# Altium footprint library AltTab_PCB_Chip.PcbLib: 105 footprints (part 6 of 7)
Each footprint in its own frame and in the unit in brackets; x right, y up, seen from the top. Pads: shape width x height; smd on the part's side, far side on the other; paste and mask are expansions set on the pad; w line width, h text height; cw(c..) or ccw(c..) is an arc to the next point about the centre after c.
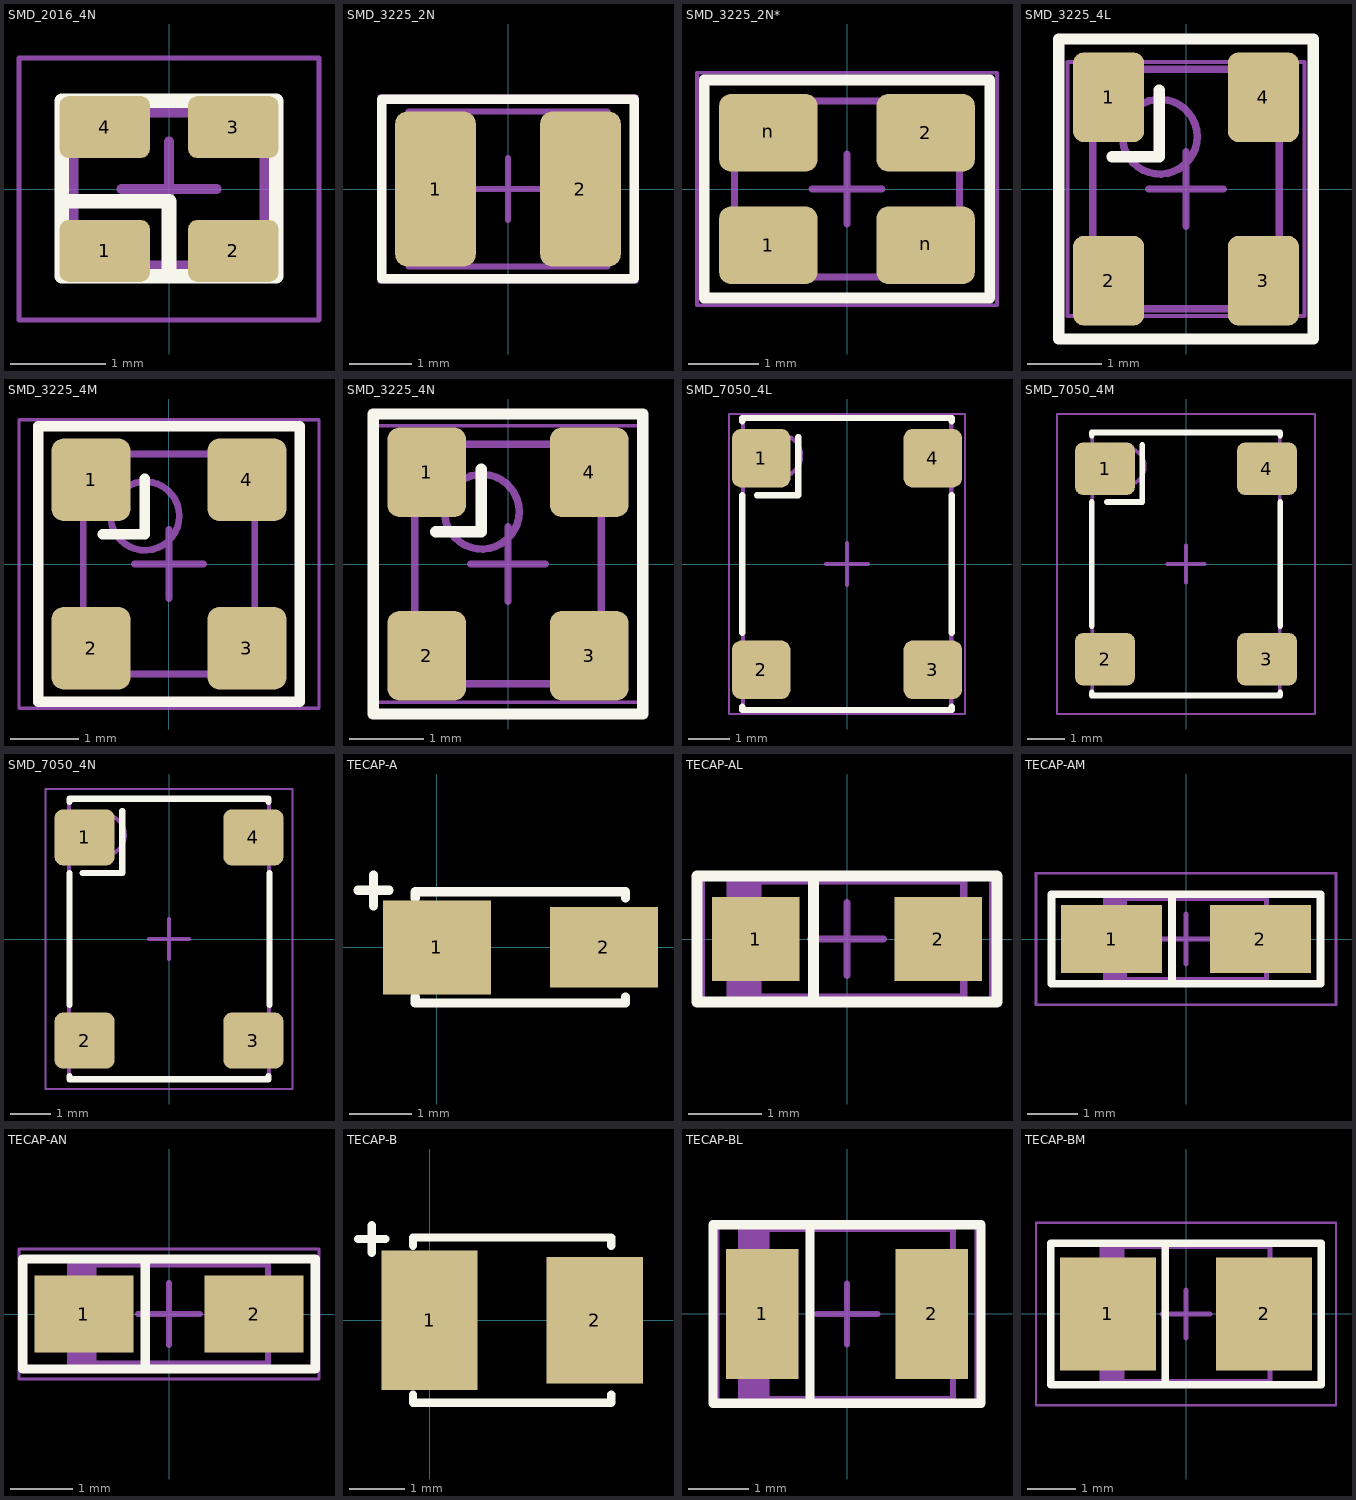
[diagram p5: the footprints below, top view; thin cyan lines are the x and y axes]

## SMD_2016_4N [mm] "QFN, 4-Leads, Body 2,00x1,60mm, Pitch 1,35mm/1,05mm, IPC Medium Density"
height 0.65
pads (4):
  rrect30% 0.95x0.65 smd: 1(-0.675,-0.65) 2(0.675,-0.65) 3(0.675,0.65) 4(-0.675,0.65)
Top Overlay:
  lines w0.152: -1.092,-0.127 0,-0.127 0,-0.914 ; 0,-0.914 1.125,-0.914 1.125,0.175 1.125,0.925 -0.1,0.925 -1.125,0.925 -1.125,-0.6 -1.125,-0.914 0,-0.914
Assembly Top:
  lines w0.1: -1,-0.8 1,-0.8 1,0.8 -1,0.8 -1,-0.8
Courtyard Top:
  lines w0.05: -1.575,-1.375 1.575,-1.375 1.575,1.375 -1.575,1.375 -1.575,-1.375
  lines w0.1: -0.5,0 0.5,0 ; 0,-0.5 0,0.5
3D body: height 0.65, standoff 0, extent -1,-0.801 1,0.801

## SMD_3225_2N [mm] "DFN, 2-Leads, Body 2,50x3,20mm, Pitch 1,90mm, IPC Medium Density"
height 0.85
pads (2):
  rrect30% 1.3x2.5 smd: 1(-1.168,0) 2(1.168,0)
Top Overlay:
  lines w0.152: -2.032,-1.448 -2.032,1.448 2.032,1.448 2.032,-1.448 -2.032,-1.448
Assembly Top:
  lines w0.1: -1.6,-1.25 1.6,-1.25 1.6,1.25 -1.6,1.25 -1.6,-1.25
Courtyard Top:
  lines w0.05: -2.083,-1.5 2.083,-1.5 2.083,1.5 -2.083,1.5 -2.083,-1.5
  lines w0.1: -0.5,0 0.5,0 ; 0,-0.5 0,0.5
3D body: height 0.85, standoff 0.05, extent -1.6,-1.25 1.6,1.25

## SMD_3225_2N* [mm] "DFN, 2-Leads, Body 2,50x3,20mm, Pitch 1,90mm, IPC Medium Density"
height 0.85
pads (4):
  rrect30% 1.4x1.1 smd: 1(-1.118,-0.8) 2(1.118,0.8) n(-1.118,0.8) n(1.118,-0.8)
Top Overlay:
  lines w0.152: -1.854,-1.549 2.032,-1.549 2.032,1.549 1.6,1.549 -2.032,1.549 -2.032,-1.549 -1.676,-1.549
Assembly Top:
  lines w0.1: -1.6,-1.25 1.6,-1.25 1.6,1.25 -1.6,1.25 -1.6,-1.25
Courtyard Top:
  lines w0.05: -2.134,-1.651 2.134,-1.651 2.134,1.651 -2.134,1.651 -2.134,-1.651
  lines w0.1: -0.5,0 0.5,0 ; 0,-0.5 0,0.5
3D body: height 0.85, standoff 0.05, extent -1.6,-1.25 1.6,1.25

## SMD_3225_4L [mm] "SON, 4-Leads, Body 3,20x2,50mm, Pitch 2,20mm, IPC High Density"
height 1
pads (4):
  rrect30% 0.95x1.2 smd: 1(-1.035,1.227) 2(-1.035,-1.227) 3(1.035,-1.227) 4(1.035,1.227)
Top Overlay:
  lines w0.152: -0.991,0.432 -0.356,0.432 -0.356,1.321 ; 1.168,-2.007 1.702,-2.007 1.702,1.702 1.702,2.007 -1.702,2.007 -1.702,-1.626 -1.702,-2.007 1.346,-2.007
Assembly Top:
  circle w0.1: c-0.35,0.7 r0.5
  lines w0.1: -1.25,-1.6 -1.25,1.6 1.25,1.6 1.25,-1.6 -1.25,-1.6
Courtyard Top:
  lines w0.05: -1.585,-1.7 -1.585,1.7 1.585,1.7 1.585,-1.7 -1.585,-1.7
  lines w0.1: -0.5,0 0.5,0 ; 0,-0.5 0,0.5
3D body "SON220P250X100-4L.step": height 1, standoff 0, extent -1.25,-1.6 1.25,1.6

## SMD_3225_4M [mm] "SON, 4-Leads, Body 3,20x2,50mm, Pitch 2,20mm, IPC Low Density"
height 1
pads (4):
  rrect30% 1.15x1.2 smd: 1(-1.135,1.227) 2(-1.135,-1.227) 3(1.135,-1.227) 4(1.135,1.227)
Top Overlay:
  lines w0.152: -1.473,-2.007 1.905,-2.007 1.905,-0.533 1.905,2.007 0.762,2.007 -1.905,2.007 -1.905,-1.524 -1.905,-2.007 -1.397,-2.007 ; -0.965,0.432 -0.356,0.432 -0.356,1.245
Assembly Top:
  circle w0.1: c-0.35,0.7 r0.5
  lines w0.1: -1.25,-1.6 -1.25,1.6 1.25,1.6 1.25,-1.6 -1.25,-1.6
Courtyard Top:
  lines w0.05: -2.185,-2.1 -2.185,2.1 2.185,2.1 2.185,-2.1 -2.185,-2.1
  lines w0.1: -0.5,0 0.5,0 ; 0,-0.5 0,0.5
3D body "SON220P250X100-4M.step": height 1, standoff 0, extent -1.25,-1.6 1.25,1.6

## SMD_3225_4N [mm] "SON, 4-Leads, Body 3,20x2,50mm, Pitch 2,20mm, IPC Medium Density"
height 1
pads (4):
  rrect30% 1.05x1.2 smd: 1(-1.085,1.227) 2(-1.085,-1.227) 3(1.085,-1.227) 4(1.085,1.227)
Top Overlay:
  lines w0.152: -1.803,-1.778 -1.803,-2.007 ; -0.965,0.432 -0.356,0.432 -0.356,1.27 ; 1.092,-2.007 1.803,-2.007 1.803,1.041 1.803,2.007 -1.6,2.007 -1.803,2.007 -1.803,-0.406 -1.803,-2.007 ; 1.219,-2.007 -1.803,-2.007
Assembly Top:
  circle w0.1: c-0.35,0.7 r0.5
  lines w0.1: -1.25,-1.6 -1.25,1.6 1.25,1.6 1.25,-1.6 -1.25,-1.6
Courtyard Top:
  lines w0.05: -1.835,-1.85 -1.835,1.85 1.835,1.85 1.835,-1.85 -1.835,-1.85
  lines w0.1: -0.5,0 0.5,0 ; 0,-0.5 0,0.5
3D body "SON220P250X100-4N.step": height 1, standoff 0, extent -1.25,-1.6 1.25,1.6

## SMD_7050_4L [mm] "SON, 4-Leads, Body 7,00x5,00mm, Pitch 5,08mm, IPC High Density"
height 1.3
pads (4):
  rrect30% 1.4x1.4 smd: 1(-2.06,2.54) 2(-2.06,-2.54) 3(2.06,-2.54) 4(2.06,2.54)
Top Overlay:
  lines w0.152: -2.515,-3.429 -2.515,-3.505 2.515,-3.505 2.515,-3.429 ; -2.515,-1.651 -2.515,1.651 ; -2.515,3.429 -2.515,3.505 2.515,3.505 2.515,3.429 ; -2.159,1.651 -1.168,1.651 -1.168,3.048 ; 2.515,-1.651 2.515,1.651
Assembly Top:
  circle w0.1: c-1.6,2.6 r0.5
  lines w0.1: -2.5,-3.5 -2.5,3.5 2.5,3.5 2.5,-3.5 -2.5,-3.5
Courtyard Top:
  lines w0.05: -2.835,-3.6 -2.835,3.6 2.835,3.6 2.835,-3.6 -2.835,-3.6
  lines w0.1: -0.5,0 0.5,0 ; 0,-0.5 0,0.5
3D body "SON508P500X130-4L.step": height 1.3, standoff 0, extent -2.5,-3.5 2.5,3.5

## SMD_7050_4M [mm] "SON, 4-Leads, Body 7,00x5,00mm, Pitch 5,08mm, IPC Low Density"
height 1.3
pads (4):
  rrect30% 1.6x1.4 smd: 1(-2.16,2.54) 2(-2.16,-2.54) 3(2.16,-2.54) 4(2.16,2.54)
Top Overlay:
  lines w0.152: -2.515,-3.429 -2.515,-3.505 2.515,-3.505 2.515,-3.429 ; -2.515,-1.651 -2.515,1.651 ; -2.515,3.429 -2.515,3.505 2.515,3.505 2.515,3.429 ; -2.108,1.651 -1.168,1.651 -1.168,3.175 ; 2.515,-1.651 2.515,1.651
Assembly Top:
  circle w0.1: c-1.6,2.6 r0.5
  lines w0.1: -2.5,-3.5 2.5,-3.5 2.5,3.5 -2.5,3.5 -2.5,-3.5
Courtyard Top:
  lines w0.05: -3.435,-4 3.435,-4 3.435,4 -3.435,4 -3.435,-4
  lines w0.1: -0.5,0 0.5,0 ; 0,-0.5 0,0.5
3D body "SON508P500X130-4M.step": height 1.3, standoff 0, extent -2.5,-3.5 2.5,3.5

## SMD_7050_4N [mm] "SON, 4-Leads, Body 7,00x5,00mm, Pitch 5,08mm, IPC Medium Density"
height 1.3
pads (4):
  rrect30% 1.5x1.4 smd: 1(-2.11,2.54) 2(-2.11,-2.54) 3(2.11,-2.54) 4(2.11,2.54)
Top Overlay:
  lines w0.152: -2.489,-3.429 -2.489,-3.505 2.261,-3.505 2.489,-3.505 2.489,-3.429 ; -2.489,-1.651 -2.489,1.651 ; -2.489,3.429 -2.489,3.505 2.489,3.505 2.489,3.429 ; -2.159,1.651 -1.168,1.651 -1.168,3.2 ; 2.515,-1.651 2.515,1.651
Assembly Top:
  circle w0.1: c-1.6,2.6 r0.5
  lines w0.1: -2.5,-3.5 -2.5,3.5 2.5,3.5 2.5,-3.5 -2.5,-3.5
Courtyard Top:
  lines w0.05: -3.085,-3.75 -3.085,3.75 3.085,3.75 3.085,-3.75 -3.085,-3.75
  lines w0.1: -0.5,0 0.5,0 ; 0,-0.5 0,0.5
3D body "SON508P500X130-4N.step": height 1.3, standoff 0, extent -2.5,-3.5 2.5,3.5

## TECAP-A [mm]
pads (2):
  rect 1.75x1.524 smd mask+0.05: 1(0,0)
  rect 1.75x1.3 smd mask+0.05: 2(2.7,0)
Top Overlay:
  lines w0.15: -1.275,0.923 -0.775,0.923 ; -1.025,0.673 -1.025,1.173 ; -0.35,-0.8 -0.35,-0.9 3.05,-0.9 3.05,-0.8 ; -0.35,0.8 -0.35,0.9 3.05,0.9 3.05,0.8
3D body "A Case SMT Capacitor.step": height 1.67, standoff 0.07, extent -0.317,-0.889 2.857,0.711

## TECAP-AL [mm] "Molded Capacitor, 2-Leads, Body 3,20x1,60mm, IPC High Density"
height 1.6
pads (2):
  rect 1.2x1.15 smd: 1(-1.25,0) 2(1.25,0)
Top Overlay:
  lines w0.152: -1.143,-0.864 2.057,-0.864 2.057,-0.457 2.057,0.864 0.356,0.864 -2.057,0.864 -2.057,-0.711 -2.057,-0.864 -0.991,-0.864 ; -0.559,0.864 -0.457,0.864 -0.457,-0.864
Assembly Top:
  rectangle: -1.6,-0.8 -1.17,0.8
  lines w0.1: -1.6,-0.8 -1.6,0.8 1.6,0.8 1.6,-0.8 -1.6,-0.8
Courtyard Top:
  lines w0.05: -1.975,-0.9 -1.975,0.9 1.975,0.9 1.975,-0.9 -1.975,-0.9
  lines w0.1: -0.5,0 0.5,0 ; 0,-0.5 0,0.5
3D body "CAPMP3216X16N.step": height 1.6, standoff 0, extent -1.82,-0.8 1.82,0.8

## TECAP-AM [mm] "Molded Capacitor, 2-Leads, Body 3,20x1,60mm, IPC Low Density"
height 1.6
pads (2):
  rect 2x1.35 smd: 1(-1.475,0) 2(1.475,0)
Top Overlay:
  lines w0.152: -1.575,-0.889 2.667,-0.889 2.667,-0.025 2.667,0.889 0.787,0.889 -2.667,0.889 -2.667,-0.051 -2.667,-0.889 -1.524,-0.889 ; -0.483,0.889 -0.279,0.889 -0.279,-0.889
Assembly Top:
  rectangle: -1.6,-0.8 -1.17,0.8
  lines w0.1: -1.6,-0.8 1.6,-0.8 1.6,0.8 -1.6,0.8 -1.6,-0.8
Courtyard Top:
  lines w0.05: -2.975,-1.3 2.975,-1.3 2.975,1.3 -2.975,1.3 -2.975,-1.3
  lines w0.1: -0.5,0 0.5,0 ; 0,-0.5 0,0.5
3D body "CAPMP3216X16M.step": height 1.6, standoff 0, extent -1.82,-0.8 1.82,0.8

## TECAP-AN [mm] "Molded Capacitor, 2-Leads, Body 3,20x1,60mm, IPC Medium Density"
height 1.6
pads (2):
  rect 1.6x1.25 smd: 1(-1.375,0) 2(1.375,0)
Top Overlay:
  lines w0.152: -0.559,0.889 -0.381,0.889 -0.381,-0.889 ; 1.372,-0.889 2.362,-0.889 2.362,0.889 1.422,0.889 -0.025,0.889 -2.362,0.889 -2.362,-0.889 1.448,-0.889
Assembly Top:
  rectangle: -1.6,-0.8 -1.17,0.8
  lines w0.1: -1.6,-0.8 -1.6,0.8 1.6,0.8 1.6,-0.8 -1.6,-0.8
Courtyard Top:
  lines w0.05: -2.425,-1.05 -2.425,1.05 2.425,1.05 2.425,-1.05 -2.425,-1.05
  lines w0.1: -0.5,0 0.5,0 ; 0,-0.5 0,0.5
3D body "CAPMP3216X16N.step": height 1.6, standoff 0, extent -1.82,-0.8 1.82,0.8

## TECAP-B [mm]
pads (2):
  rect 1.75x2.54 smd mask+0.05: 1(0,0)
  rect 1.75x2.3 smd mask+0.05: 2(3,0)
Top Overlay:
  lines w0.15: -1.299,1.475 -0.799,1.475 ; -1.049,1.225 -1.049,1.725 ; -0.3,-1.35 -0.3,-1.5 3.3,-1.5 3.3,-1.35 ; -0.3,1.35 -0.3,1.5 3.3,1.5 3.3,1.35
3D body "TECAP B.step": height 1.9, standoff 0, extent -0.226,-1.4 3.274,1.4

## TECAP-BL [mm] "Molded Capacitor, 2-Leads, Body 3,50x2,80mm, IPC High Density"
height 1.9
pads (2):
  rect 1.2x2.15 smd: 1(-1.4,0) 2(1.4,0)
Top Overlay:
  lines w0.152: -0.61,-1.397 -0.61,1.397 ; -2.21,-1.473 -2.21,-0.61 -2.21,1.473 -1.118,1.473 2.21,1.473 2.21,1.219 2.21,-1.473 1.676,-1.473 -2.21,-1.473
Assembly Top:
  rectangle: -1.75,-1.4 -1.279,1.4
  lines w0.1: -1.75,-1.4 1.75,-1.4 1.75,1.4 -1.75,1.4 -1.75,-1.4
Courtyard Top:
  lines w0.05: -2.125,-1.5 2.125,-1.5 2.125,1.5 -2.125,1.5 -2.125,-1.5
  lines w0.1: -0.5,0 0.5,0 ; 0,-0.5 0,0.5
3D body "CAPMP3528X19L.step": height 1.9, standoff 0, extent -1.97,-1.4 1.97,1.4

## TECAP-BM [mm] "Molded Capacitor, 2-Leads, Body 3,50x2,80mm, IPC Low Density"
height 1.9
pads (2):
  rect 2x2.35 smd: 1(-1.625,0) 2(1.625,0)
Top Overlay:
  lines w0.152: -0.559,1.473 -0.432,1.473 -0.432,-1.397 ; -2.819,-1.473 -2.819,0.559 -2.819,1.473 2.819,1.473 2.819,-1.473 -1.041,-1.473 -2.819,-1.473
Assembly Top:
  rectangle: -1.75,-1.4 -1.279,1.4
  lines w0.1: -1.75,-1.4 1.75,-1.4 1.75,1.4 -1.75,1.4 -1.75,-1.4
Courtyard Top:
  lines w0.05: -3.125,-1.9 3.125,-1.9 3.125,1.9 -3.125,1.9 -3.125,-1.9
  lines w0.1: -0.5,0 0.5,0 ; 0,-0.5 0,0.5
3D body "CAPMP3528X19M.step": height 1.9, standoff 0, extent -1.97,-1.4 1.97,1.4